# EAGLE library part ADAFRUIT-BME280 (library BME280)
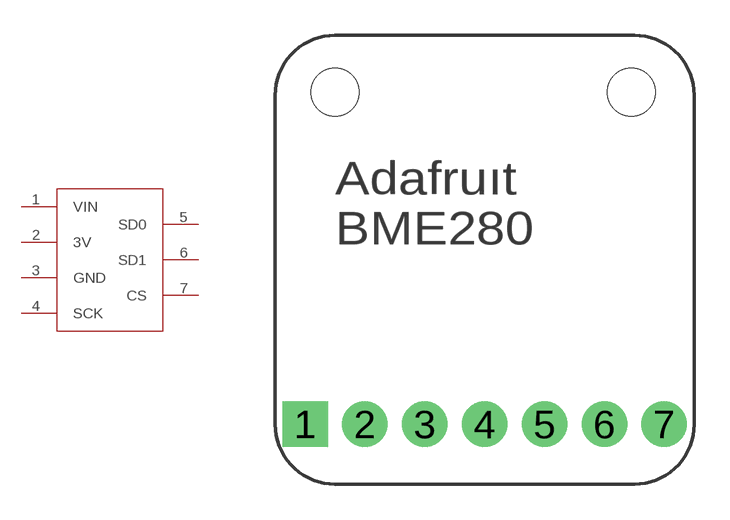
[diagram p0: symbol with the pads of BME280; footprint BME280]

Designator prefix -

## ADAFRUIT-BME280  [BME280]
1  VIN  pwr
2  3V  pwr
3  GND  pwr
4  SCK
5  SD0
6  SD1
7  CS

## Footprint BME280 (pad centres in mm)
drill 1 pad 1.93 square: 1 -7.62,0
drill 1 pad 1.93: 2 -5.08,0; 3 -2.54,0; 4 0,0; 5 2.54,0; 6 5.08,0; 7 7.62,0
hole 2.032 at -6.35,14.097
hole 2.032 at 6.223,14.097